# EAGLE library part TP4056 (library TP4056)
Check availability <https://pricing.snapeda.com/parts/TP4056/others/view-part?ref=eda>
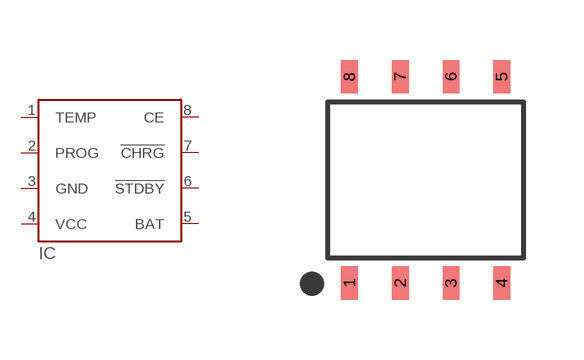
[diagram p0: symbol with the pads of SOT23-8; footprint SOT23-8]

Designator prefix IC

## TP4056 (AVAILABILITY: In Stock; CHECK_PRICES: https://www.snapeda.com/parts/TP4056/Others/view-part/?ref=eda; MF: others; MP: TP4056; PACKAGE: None; PRICE: None; SNAPEDA_LINK: https://www.snapeda.com/parts/TP4056/Others/view-part/?ref=snap)  [SOT23-8]
1  TEMP
2  PROG
3  GND
4  VCC
5  BAT
6  !STDBY
7  !CHRG
8  CE

## Footprint SOT23-8 (pad centres in mm)
Package SOP-8PP http://goo.gl/2DAeEi
smd 0.42 x 0.835: 1 -1.905,-2.58; 2 -0.635,-2.58; 3 0.635,-2.58; 4 1.905,-2.58; 5 1.905,2.58; 6 0.635,2.58; 7 -0.635,2.58; 8 -1.905,2.58